# Altium schematic symbol library TC2030.SchLib: 1 symbol
Pins are listed as number, name and electrical type; pins without a type are passive.

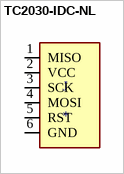
[diagram p0: symbol TC2030-IDC-NL]

## TC2030-IDC-NL
designator J
6-PIN PLUG-OF-NAILS CABLE 6; MF: Tag-Connect; MP: TC2030-IDC-NL; Package: Package Analog Devices; Availability: Unavailable; Value: *; SnapEDA_Link: https://www.snapeda.com/parts/TC2030-IDC-NL/Tag-Connect/view-part/2783029/?ref=snap; Price: None
footprint TAG_TC2030-IDC-NL
pins: 1 MISO, 2 VCC, 3 SCK, 4 MOSI, 5 RST, 6 GND